# Altium footprint library HK_PCBLIB.PcbLib: 47 footprints (part 1 of 3)
Each footprint in its own frame and in the unit in brackets; x right, y up, seen from the top. Pads: shape width x height; smd on the part's side, far side on the other; paste and mask are expansions set on the pad; w line width, h text height; cw(c..) or ccw(c..) is an arc to the next point about the centre after c.
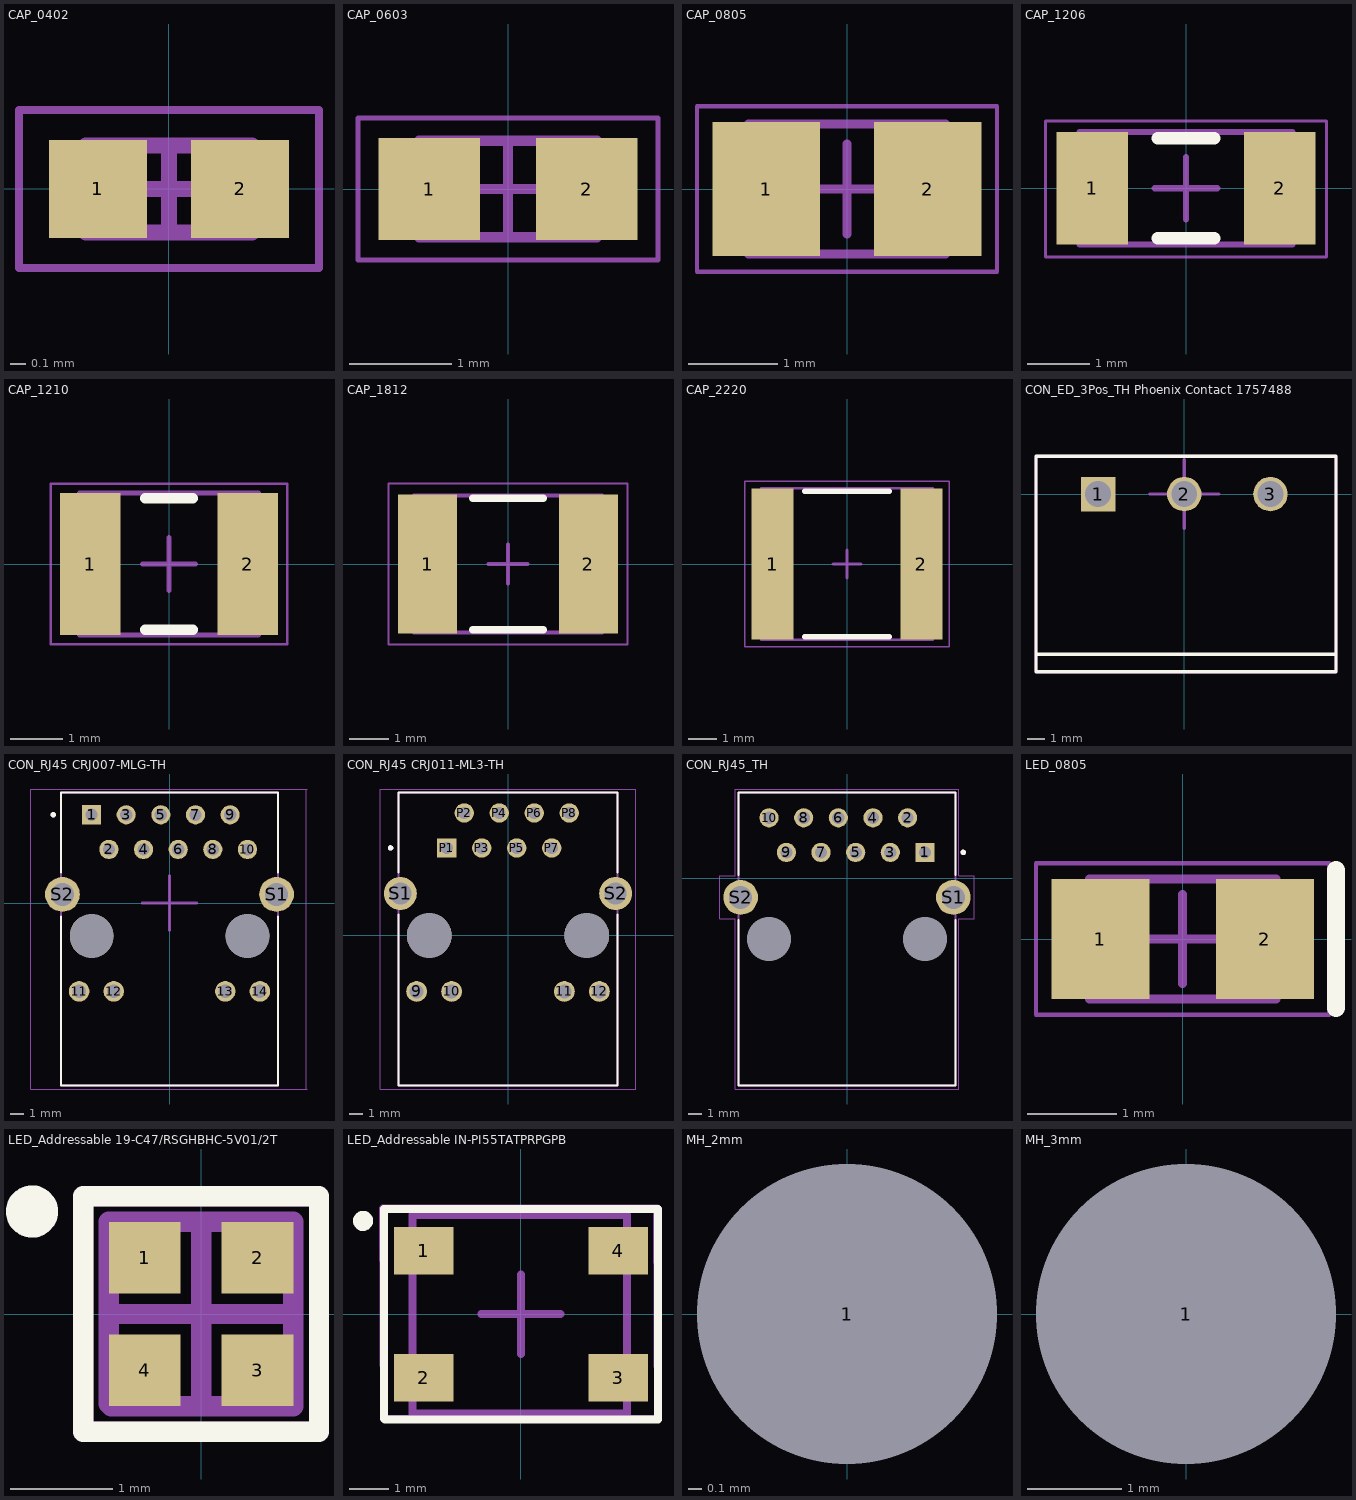
[diagram p0: the footprints below, top view; thin cyan lines are the x and y axes]

## CAP_0402 [mm] "Chip Capacitor 0402, 2-Leads, Body, IPC Medium Density"
height 0.5
pads (2):
  rect 0.62x0.62 smd: 1(-0.45,0) 2(0.45,0)
Mechanical 13:
  lines w0.1: -0.525,-0.275 0.525,-0.275 0.525,0.275 -0.525,0.275 -0.525,-0.275
Mechanical 15:
  lines w0.05: -0.95,-0.5 0.95,-0.5 0.95,0.5 -0.95,0.5 -0.95,-0.5
  lines w0.1: -0.275,0 0.275,0 ; 0,-0.275 0,0.275
3D body "CAP_0402.step": height 0.5, standoff 0, extent -0.525,-0.275 0.525,0.275

## CAP_0603 [mm] "Chip Capacitor 0603, 2-Leads, Body 1.68x0.88mm, IPC Medium Density"
height 0.9
pads (2):
  rect 1x1 smd: 1(-0.775,0) 2(0.775,0)
Mechanical 13:
  lines w0.1: -0.875,-0.475 -0.875,0.475 0.875,0.475 0.875,-0.475 -0.875,-0.475
Mechanical 15:
  lines w0.05: -1.475,-0.7 -1.475,0.7 1.475,0.7 1.475,-0.7 -1.475,-0.7
  lines w0.1: -0.475,0 0.475,0 ; 0,-0.475 0,0.475
3D body "CAP_0603.step": height 0.9, standoff 0, extent -0.875,-0.475 0.875,0.475

## CAP_0805 [mm] "Chip Capacitor, 2-Leads, Body 2.10x1.35mm, IPC Medium Density"
height 1.25
pads (2):
  rect 1.2x1.5 smd: 1(-0.9,0) 2(0.9,0)
Mechanical 13:
  lines w0.1: -1.1,-0.725 -1.1,0.725 1.1,0.725 1.1,-0.725 -1.1,-0.725
Mechanical 15:
  lines w0.05: -1.675,-0.925 -1.675,0.925 1.675,0.925 1.675,-0.925 -1.675,-0.925
  lines w0.1: -0.5,0 0.5,0 ; 0,-0.5 0,0.5
3D body: height 1.25, standoff 0, extent -0.5,-0.725 0.5,0.725
3D body: height 1.25, standoff 0, extent -1.1,-0.725 -0.5,0.725
3D body: height 1.25, standoff 0, extent 0.5,-0.725 1.1,0.725

## CAP_1206 [mm]
height 1.1
pads (2):
  rect 1.15x1.8 smd: 1(-1.5,0) 2(1.5,0)
Top Overlay:
  lines w0.2: -0.45,-0.8 0.45,-0.8 ; -0.45,0.8 0.45,0.8
Mechanical 13:
  lines w0.1: -1.7,-0.9 1.7,-0.9 1.7,0.9 -1.7,0.9 -1.7,-0.9
Mechanical 15:
  lines w0.05: -2.25,-1.1 2.25,-1.1 2.25,1.075 -2.25,1.075 -2.25,-1.1
  lines w0.1: -0.5,0 0.5,0 ; 0,-0.5 0,0.5
3D body "C1206C104F3GECAUTO.step": height 1.8, standoff 0, extent -1.7,-0.9 1.7,0.9

## CAP_1210 [mm]
height 1.25
pads (2):
  rect 1.15x2.7 smd: 1(-1.5,0) 2(1.5,0)
Top Overlay:
  lines w0.2: -0.45,-1.25 0.45,-1.25 ; -0.45,1.25 0.45,1.25
Mechanical 13:
  lines w0.1: -1.7,-1.35 -1.7,1.35 1.7,1.35 1.7,-1.35 -1.7,-1.35
Mechanical 15:
  lines w0.05: -2.25,-1.525 -2.25,1.525 2.25,1.525 2.25,-1.525 -2.25,-1.525
  lines w0.1: -0.5,0 0.5,0 ; 0,-0.5 0,0.5
3D body "C1210T226K8RCLTU.step": height 2.8, standoff 0, extent -1.75,-1.35 1.75,1.37

## CAP_1812 [mm]
height 2.2
pads (2):
  rect 1.5x3.55 smd: 1(-2.05,0) 2(2.05,0)
Top Overlay:
  lines w0.2: -0.9,-1.675 0.9,-1.675 ; -0.9,1.675 0.9,1.675
Mechanical 13:
  lines w0.1: -2.4,-1.75 2.4,-1.75 2.4,1.75 -2.4,1.75 -2.4,-1.75
Mechanical 15:
  lines w0.05: -3.05,-2.05 3.05,-2.05 3.05,2.05 -3.05,2.05 -3.05,-2.05
  lines w0.1: -0.5,0 0.5,0 ; 0,-0.5 0,0.5
3D body "C1812C472KZRACTU.step": height 2.7, standoff 0, extent -2.4,-1.75 2.4,1.75

## CAP_2220 [mm]
height 2.2
pads (2):
  rect 1.5x5.4 smd: 1(-2.65,0) 2(2.65,0)
Top Overlay:
  lines w0.2: -1.5,-2.6 1.5,-2.6 ; -1.5,2.6 1.5,2.6
Mechanical 13:
  lines w0.1: -3.05,-2.7 3.05,-2.7 3.05,2.7 -3.05,2.7 -3.05,-2.7
Mechanical 15:
  lines w0.05: -3.65,-2.95 3.65,-2.95 3.65,2.95 -3.65,2.95 -3.65,-2.95
  lines w0.1: -0.5,0 0.5,0 ; 0,-0.5 0,0.5
3D body "C2220C474F5GACTU.step": height 1.85, standoff 0, extent -3.05,-2.7 3.05,2.7

## CON_ED_3Pos_TH Phoenix Contact 1757488 [mm]
pads (3):
  rect 2x2 hole 1.5 unplated: 1(-5,0)
  round 2 hole 1.5 unplated: 2(0,0) 3(5,0)
Top Overlay:
  lines w0.2: -8.6,-9.3 8.8,-9.3 ; -8.6,-10.317 -8.6,2.183 8.8,2.183 8.8,-10.317 -8.6,-10.317
Mechanical 15:
  lines w0.2: -2,0 2,0 ; 0,-2 0,2 ; -8.6,-10.3 8.8,-10.3 8.8,2.2 -8.6,2.2 -8.6,-10.3
3D body "1757488.stp": height 8.8, standoff -3, extent -8.4,-10 8.6,2
3D body "1765344.stp": height 15, standoff 0, extent -7.33,-19.2 7.73,-0.9

## CON_RJ45 CRJ007-MLG-TH [mm]
pads (18):
  rect 1.408x1.408 hole 0.9: 1(-5.715,6.475)
  round 1.408 hole 0.9: 2(-4.445,3.935) 3(-3.175,6.475) 4(-1.905,3.935) 5(-0.635,6.475) 6(0.635,3.935) 7(1.905,6.475) 8(3.175,3.935) 9(4.445,6.475) 10(5.715,3.935)
  round 1.508 hole 1: 11(-6.63,-6.475) 12(-4.09,-6.475) 13(4.09,-6.475) 14(6.63,-6.475)
  round 2.55 hole 1.7: S1(7.85,0.635) S2(-7.85,0.635)
  round 3.2 hole 3.2 unplated: ""(-5.715,-2.415) ""(5.715,-2.415)
Top Overlay:
  circle w0.2: c-8.525,6.475 r0.1
  lines w0.127: -7.95,-0.965 -7.95,-13.385 7.95,-13.385 7.95,-0.965 ; -7.95,2.235 -7.95,8.115 7.95,8.115 7.95,2.235
Mechanical 13:
  circle w0.2: c-8.525,6.475 r0.1
  lines w0.127: -7.95,-13.385 -7.95,8.115 7.95,8.115 7.95,-13.385 -7.95,-13.385
Mechanical 15:
  lines w0.05: 10.025,-13.635 10.025,1.44 10.025,8.365 ; 10.1,-13.635 -10.175,-13.635 -10.175,2.16 -10.175,8.365 10.1,8.365
  lines w0.2: -2,0 2,0 ; 0,-2 0,2
3D body "CUI_DEVICES_CRJ007-MLG-TH.step": height 16.15, standoff -3.08, extent -10.024,-13.4 9.873,8.1

## CON_RJ45 CRJ011-ML3-TH [mm]
pads (16):
  round 1.508 hole 1: 9(-6.63,-4.06) 10(-4.09,-4.06) 11(4.09,-4.06) 12(6.63,-4.06)
  rect 1.408x1.408 / inner round 1.408 / far side rect 1.408x1.408 hole 0.9: P1(-4.445,6.35)
  round 1.408 hole 0.9: P2(-3.175,8.89) P3(-1.905,6.35) P4(-0.635,8.89) P5(0.635,6.35) P6(1.905,8.89) P7(3.175,6.35) P8(4.445,8.89)
  round 2.4 hole 1.6: S1(-7.815,3.05) S2(7.815,3.05)
  round 3.25 hole 3.25 unplated: ""(-5.715,0) ""(5.715,0)
Top Overlay:
  circle w0.2: c-8.525,6.35 r0.1
  lines w0.127: -7.94,1.53 -7.94,-10.89 7.94,-10.89 7.94,1.53 ; -7.94,4.57 -7.94,10.38 7.94,10.38 7.94,4.57
Mechanical 13:
  circle w0.2: c-8.525,6.35 r0.1
  lines w0.127: -7.94,-10.89 -7.94,10.38 7.94,10.38 7.94,-10.89 -7.94,-10.89
Mechanical 15:
  lines w0.05: -9.265,-11.14 9.265,-11.14 9.265,10.63 -9.265,10.63 -9.265,-11.14
3D body "CUI_DEVICES_CRJ011-ML3-TH.step": height 13.3, standoff -3.75, extent -8.407,-10.82 8.273,10.447

## CON_RJ45_TH [mm]
pads (14):
  rect 1.408x1.408 / inner round 1.408 / far side rect 1.408x1.408 hole 0.9: 1(5.715,1.905)
  round 1.408 hole 0.9: 2(4.445,4.445) 3(3.175,1.905) 4(1.905,4.445) 5(0.635,1.905) 6(-0.635,4.445) 7(-1.905,1.905) 8(-3.175,4.445) 9(-4.445,1.905) 10(-5.715,4.445)
  round 2.55 hole 1.7: S1(7.8,-1.395) S2(-7.8,-1.395)
  round 3.2 hole 3.2 unplated: ""(-5.715,-4.445) ""(5.715,-4.445)
Top Overlay:
  circle w0.2: c8.525,1.905 r0.1
  lines w0.127: -7.95,-3.045 -7.95,-15.195 7.95,-15.195 7.95,-3.045 ; -7.95,0.255 -7.95,6.305 7.95,6.305 7.95,0.255
Mechanical 13:
  circle w0.2: c8.525,1.905 r0.1
  lines w0.127: -7.95,-15.195 -7.95,6.305 7.95,6.305 7.95,-15.195 -7.95,-15.195
Mechanical 15:
  lines w0.05: -9.33,-2.965 -8.2,-2.965 -8.2,-15.445 8.2,-15.445 8.2,-2.965 9.33,-2.965 9.33,0.175 8.2,0.175 8.2,6.555 -8.2,6.555 -8.2,0.175 -9.33,0.175 -9.33,-2.965
3D body "CUI_DEVICES_CRJ005-M1-TH.step": height 13.75, standoff -3.4, extent -8.071,-15.195 8.088,6.405

## LED_0805 [mm]
pads (2):
  rect 1.1x1.35 smd: 1(-0.925,0) 2(0.925,0)
Top Overlay:
  lines w0.2: 1.725,-0.775 1.725,0.775
Mechanical 13:
  lines w0.1: -1.05,-0.675 -1.05,0.675 1.05,0.675 1.05,-0.675 -1.05,-0.675
Mechanical 15:
  lines w0.05: -1.65,-0.85 -1.65,0.85 1.65,0.85 1.65,-0.85 -1.65,-0.85
  lines w0.1: -0.5,0 0.5,0 ; 0,-0.5 0,0.5
3D body "LED_0805.STEP": height 1.1, standoff 0, extent -1,-0.625 1,0.625

## LED_Addressable 19-C47/RSGHBHC-5V01/2T [mm] "1.8mm L x 1.8mm W"
pads (4):
  rect 0.7x0.7 smd mask+0.05: 1(-0.55,0.55) 2(0.55,0.55) 3(0.55,-0.55) 4(-0.55,-0.55)
Top Overlay:
  circle w0.254: c-1.65,1 r0.127
  lines w0.2: -1.15,-1.15 1.15,-1.15 1.15,1.15 -1.15,1.15 -1.15,-1.15
Mechanical 13:
  circle w0.254: c-0.55,0.575 r0.025
  lines w0.2: -0.9,-0.875 -0.875,-0.9 0.9,-0.9 0.9,0.9 -0.9,0.9 -0.9,-0.875
Mechanical 15:
  lines w0.2: -0.8,0 0.8,0 ; 0,-0.8 0,0.8 ; -1.15,-1.15 -1.15,1.15 1.15,1.15 1.15,-1.15 -1.15,-1.15
3D body "19-C47RSGHBHC-5V012T_EVE.step": height 0.66, standoff 0, extent -0.902,-0.906 0.902,0.906

## LED_Addressable IN-PI55TATPRPGPB [mm] "5.00mm L x 5.00mm W"
pads (4):
  rect 1.5x1.2 smd: 1(-2.45,1.6) 2(-2.45,-1.6) 3(2.45,-1.6) 4(2.45,1.6)
Top Overlay:
  circle w0.254: c-3.975,2.35 r0.127
  lines w0.2: 3.45,2.575 3.45,-2.65 -3.425,-2.65 -3.45,-2.625 -3.45,2.65 3.45,2.65
Mechanical 13:
  circle w0.254: c-2.25,2 r0.071
  lines w0.2: -2.725,-2.5 2.675,-2.5 2.675,2.5 -2.725,2.5 -2.725,-2.5
Mechanical 15:
  lines w0.2: -1,0 1,0 ; 0,-1 0,1 ; 3.426,-2.639 -3.45,-2.639 -3.474,2.661 3.426,2.661 ; 3.426,2.586 3.45,-2.639
3D body "LED_IN-PI55TAT_INL.step": height 1.6, standoff 0, extent -2.73,-2.502 2.68,2.502

## MH_2mm [mil]
pads (1):
  round 60 hole 86.61 unplated: 1(0,0)

## MH_3mm [mil]
pads (1):
  round 60 hole 125.98 unplated: 1(0,0)